# Altium integrated library _simulation_pspice_functions.IntLib: 40 symbols
Pins are listed as number, name and electrical type; pins without a type are passive.

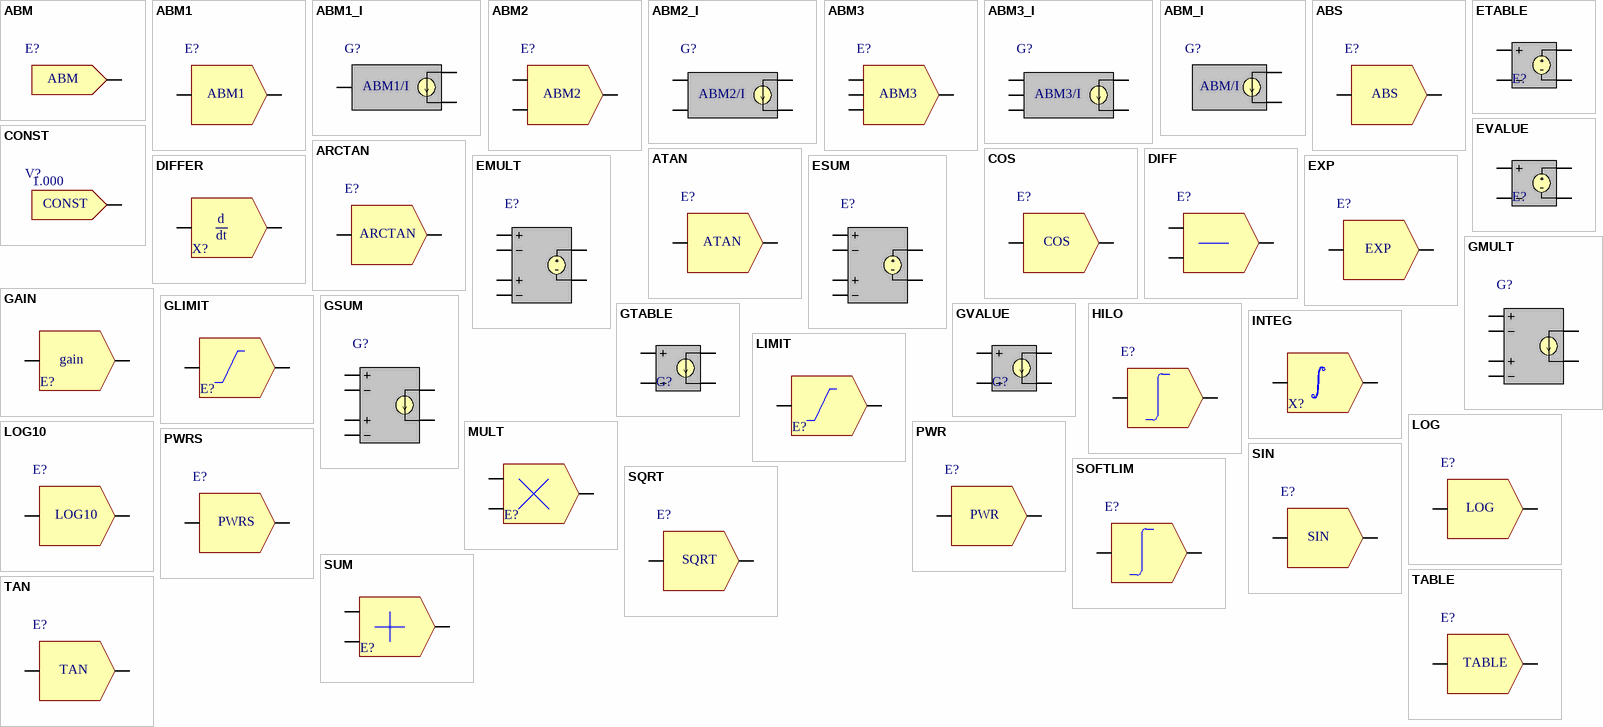
[diagram p0: symbols ABM to TAN]

## ABM
designator E?
Customisable expression - no inputs, voltage output; Note: PCB Footprint - Not required; Published: 16-Dec-2005; DatasheetVersion: 9.2.3; PackageReference: Not Applicable
simulation model ABM
pins: 1 OUT

## ABM1
designator E?
Customisable expression - one input, voltage output; Note: PCB Footprint - Not required; Published: 31-Jul-2006; DatasheetVersion: 9.2.3; PackageReference: Not Applicable
simulation model ABM1
pins: 1 IN, 2 OUT

## ABM1_I
designator G?
Customisable expression - one input, current output; Note: PCB Footprint - Not required; Published: 31-Jul-2006; DatasheetVersion: 9.2.3; PackageReference: Not Applicable
simulation model ABM1_I
pins: 1 IN, 2 OUTp, 3 OUTm
text: ABM1/I

## ABM2
designator E?
Customisable expression - two inputs, voltage output; Note: PCB Footprint - Not required; Published: 31-Jul-2006; DatasheetVersion: 9.2.3; PackageReference: Not Applicable
simulation model ABM2
pins: 1 IN1, 2 IN2, 3 OUT

## ABM2_I
designator G?
Customisable expression - two inputs, current output; Note: PCB Footprint - Not required; Published: 31-Jul-2006; DatasheetVersion: 9.2.3; PackageReference: Not Applicable
simulation model ABM2_I
pins: 1 IN1, 2 IN2, 3 OUTp, 4 OUTm
text: ABM2/I

## ABM3
designator E?
Customisable expression - three inputs, voltage output; Note: PCB Footprint - Not required; Published: 31-Jul-2006; DatasheetVersion: 9.2.3; PackageReference: Not Applicable
simulation model ABM3
pins: 1 IN1, 2 IN2, 3 IN3, 4 OUT

## ABM3_I
designator G?
Customisable expression - three inputs, current output; Note: PCB Footprint - Not required; Published: 31-Jul-2006; DatasheetVersion: 9.2.3; PackageReference: Not Applicable
simulation model ABM3_I
pins: 1 IN1, 2 IN2, 3 IN3, 4 OUTp, 5 OUTm
text: ABM3/I

## ABM_I
designator G?
Customisable expression - no inputs, current output; Note: PCB Footprint - Not required; Published: 31-Jul-2006; DatasheetVersion: 9.2.3; PackageReference: Not Applicable
simulation model ABM_I
pins: 1 OUTp, 2 OUTm
text: ABM/I

## ABS
designator E?
Absolute value of input; Note: PCB Footprint - Not required; Published: 31-Jul-2006; DatasheetVersion: 9.2.3; PackageReference: Not Applicable
simulation model ABS
pins: 1 IN, 2 OUT

## ARCTAN
designator E?
Arc Tangent of input; Note: PCB Footprint - Not required; Published: 31-Jul-2006; DatasheetVersion: 9.2.3; PackageReference: Not Applicable
simulation model ARCTAN
pins: 1 IN, 2 OUT

## ATAN
designator E?
Arc Tangent of input; Note: PCB Footprint - Not required; Published: 31-Jul-2006; DatasheetVersion: 9.2.3; PackageReference: Not Applicable
simulation model ATAN
pins: 1 IN, 2 OUT

## CONST
designator V?  value 1.000
Outputs a constant voltage specified by the VALUE property; Note: PCB Footprint - Not required; Published: 31-Jul-2006; DatasheetVersion: 9.2.3; PackageReference: Not Applicable
simulation model CONST
pins: 1 OUT

## COS
designator E?
Cosine of input; Note: PCB Footprint - Not required; Published: 31-Jul-2006; DatasheetVersion: 9.2.3; PackageReference: Not Applicable
simulation model COS
pins: 1 IN, 2 OUT

## DIFF
designator E?
Difference of two input sources; Note: PCB Footprint - Not required; Published: 31-Jul-2006; DatasheetVersion: 9.2.3; PackageReference: Not Applicable
simulation model DIFF
pins: 1 IN1, 2 IN2, 3 OUT

## DIFFER
designator X?
A differentiator; Note: PCB Footprint - Not required; Published: 31-Jul-2006; DatasheetVersion: 9.2.3; PackageReference: Not Applicable
simulation model DIFFER (SUBCKT)
pins: 1 in, 2 out
text: d; dt

## EMULT
designator E?
Multiplies two input sources producing a voltage output; Note: PCB Footprint - Not required; Published: 31-Jul-2006; DatasheetVersion: 9.2.3; PackageReference: Not Applicable
simulation model EMULT
pins: 1 IN1p, 2 IN1n, 3 IN2p, 4 IN2n, 5 OUTp, 6 OUTn

## ESUM
designator E?
Sums two input sources producing a voltage output; Note: PCB Footprint - Not required; Published: 31-Jul-2006; DatasheetVersion: 9.2.3; PackageReference: Not Applicable
simulation model ESUM
pins: 1 IN1p, 2 IN1n, 3 IN2p, 4 IN2n, 5 OUTp, 6 OUTn

## ETABLE
designator E?
Lookup table producing a voltage output; Note: PCB Footprint - Not required; Published: 31-Jul-2006; DatasheetVersion: 9.2.3; PackageReference: Not Applicable
simulation model ETABLE
pins: 1 NC+, 2 NC-, 3 N+, 4 N-

## EVALUE
designator E?
Non-linear dependent voltage source; Note: PCB Footprint - Not required; Published: 31-Jul-2006; DatasheetVersion: 9.2.3; PackageReference: Not Applicable
simulation model EVALUE
pins: 1 NC+, 2 NC-, 3 N+, 4 N-

## EXP
designator E?
Exponential of input; Note: PCB Footprint - Not required; Published: 31-Jul-2006; DatasheetVersion: 9.2.3; PackageReference: Not Applicable
simulation model EXP
pins: 1 IN, 2 OUT

## GAIN
designator E?
Multiplies the input by a constant value specified by the GAIN property; Note: PCB Footprint - Not required; Published: 31-Jul-2006; DatasheetVersion: 9.2.3; PackageReference: Not Applicable
simulation model GAIN
pins: 1 in, 2 out
text: gain

## GLIMIT
designator E?
The GAIN property is applied to the input voltage, then the output current  is constrained to the limits set by the LO and HI properties; Note: PCB Footprint - Not required; Published: 31-Jul-2006; DatasheetVersion: 9.2.3; PackageReference: Not Applicable
simulation model GLIMIT
pins: 1 in, 2 out

## GMULT
designator G?
Multiplies two input sources producing a current output; Note: PCB Footprint - Not required; Published: 31-Jul-2006; DatasheetVersion: 9.2.3; PackageReference: Not Applicable
simulation model GMULT
pins: 1 IN1p, 2 IN1n, 3 IN2p, 4 IN2n, 5 OUTp, 6 OUTn

## GSUM
designator G?
Sums two input sources producing a current output; Note: PCB Footprint - Not required; Published: 31-Jul-2006; DatasheetVersion: 9.2.3; PackageReference: Not Applicable
simulation model GSUM
pins: 1 IN1p, 2 IN1n, 3 IN2p, 4 IN2n, 5 OUTp, 6 OUTn

## GTABLE
designator G?
Lookup table  producing a current output; Note: PCB Footprint - Not required; Published: 31-Jul-2006; DatasheetVersion: 9.2.3; PackageReference: Not Applicable
simulation model GTABLE
pins: 1 NC+, 2 NC-, 3 N+, 4 N-

## GVALUE
designator G?
Non-linear dependent current source; Note: PCB Footprint - Not required; Published: 31-Jul-2006; DatasheetVersion: 9.2.3; PackageReference: Not Applicable
simulation model GVALUE
pins: 1 NC+, 2 NC-, 3 N+, 4 N-

## HILO
designator E?
Similar to the LIMIT device, except that it uses a continous curve limiting function (tanh); Note: PCB Footprint - Not required; Published: 31-Jul-2006; DatasheetVersion: 9.2.3; PackageReference: Not Applicable
simulation model HILO
pins: 1 IN, 2 OUT

## INTEG
designator X?
An integrator; Note: PCB Footprint - Not required; Published: 31-Jul-2006; DatasheetVersion: 9.2.3; PackageReference: Not Applicable
simulation model INTEG (SUBCKT)
pins: 1 in, 2 out

## LIMIT
designator E?
Outputs a voltage constrained to the limits set by the LO and HI properties; Note: PCB Footprint - Not required; Published: 31-Jul-2006; DatasheetVersion: 9.2.3; PackageReference: Not Applicable
simulation model LIMIT
pins: 1 in, 2 out

## LOG
designator E?
Logarithm of input; Note: PCB Footprint - Not required; Published: 31-Jul-2006; DatasheetVersion: 9.2.3; PackageReference: Not Applicable
simulation model LOG
pins: 1 IN, 2 OUT

## LOG10
designator E?
Log base 10 of input; Note: PCB Footprint - Not required; Published: 31-Jul-2006; DatasheetVersion: 9.2.3; PackageReference: Not Applicable
simulation model LOG10
pins: 1 IN, 2 OUT

## MULT
designator E?
Multiplies two input sources; Note: PCB Footprint - Not required; Published: 31-Jul-2006; DatasheetVersion: 9.2.3; PackageReference: Not Applicable
simulation model MULT
pins: 1 in_a, 2 in_b, 3 out

## PWR
designator E?
Raise input to power specified by EXP parameter; Note: PCB Footprint - Not required; Published: 31-Jul-2006; DatasheetVersion: 9.2.3; PackageReference: Not Applicable
simulation model PWR
pins: 1 IN, 2 OUT

## PWRS
designator E?
Raise input to power specified by EXP parameter If input is negative, output will also be negative; Note: PCB Footprint - Not required; Published: 31-Jul-2006; DatasheetVersion: 9.2.3; PackageReference: Not Applicable
simulation model PWRS
pins: 1 IN, 2 OUT

## SIN
designator E?
Sine of input; Note: PCB Footprint - Not required; Published: 31-Jul-2006; DatasheetVersion: 9.2.3; PackageReference: Not Applicable
simulation model SIN
pins: 1 IN, 2 OUT

## SOFTLIM
designator E?
Similar to the LIMIT device, except that it uses a continous curve limiting function (tanh); Note: PCB Footprint - Not required; Published: 31-Jul-2006; DatasheetVersion: 9.2.3; PackageReference: Not Applicable
simulation model SOFTLIM
pins: 1 IN, 2 OUT

## SQRT
designator E?
Square root of input; Note: PCB Footprint - Not required; Published: 31-Jul-2006; DatasheetVersion: 9.2.3; PackageReference: Not Applicable
simulation model SQRT
pins: 1 IN, 2 OUT

## SUM
designator E?
Sums two input sources; Note: PCB Footprint - Not required; Published: 31-Jul-2006; DatasheetVersion: 9.2.3; PackageReference: Not Applicable
simulation model SUM
pins: 1 in_a, 2 in_b, 3 out

## TABLE
designator E?
Lookup table; Note: PCB Footprint - Not required; Published: 31-Jul-2006; DatasheetVersion: 9.2.3; PackageReference: Not Applicable
simulation model TABLE
pins: 1 IN, 2 OUT

## TAN
designator E?
Tangent of input; Note: PCB Footprint - Not required; Published: 31-Jul-2006; DatasheetVersion: 9.2.3; PackageReference: Not Applicable
simulation model TAN
pins: 1 IN, 2 OUT